# EAGLE library part 691307400004 (library Terminal_Blocks_Connectors_rev15e)
WR - TBL Serie 3074 - 7.62mm Reversed Gender Vertical PCB Header , 4 pins=>Code : WR-TBL_3074_691307400004 <http://katalog.we-online.de/media/images/eican/WR-TBL_3074_691307400003_pf2.jpg> Details see: http://katalog.we-online.de/en/em/691_307_400_0xx Created 2014-06-25, Karrer Zheng 2014 (C) Würth Elektronik
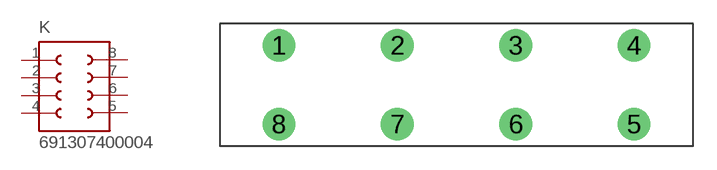
[diagram p192: symbol with the pads of 691307400004; footprint 691307400004]

Designator prefix K

## 691307400004  [691307400004]
1  1  pas
2  2  pas
3  3  pas
4  4  pas
5  5  pas
6  6  pas
7  7  pas
8  8  pas

## Footprint 691307400004 (pad centres in mm)
WR - TBL Serie 3074 - 7.62mm Reversed Gender Vertical PCB Header , 4 pins
drill 1.4: 1 -15.24,0; 2 -7.62,0; 3 0,0; 4 7.62,0; 5 7.62,-5.08; 6 0,-5.08; 7 -7.62,-5.08; 8 -15.24,-5.08